# EAGLE library part HEAEDER_2X4 (library logic-supply)
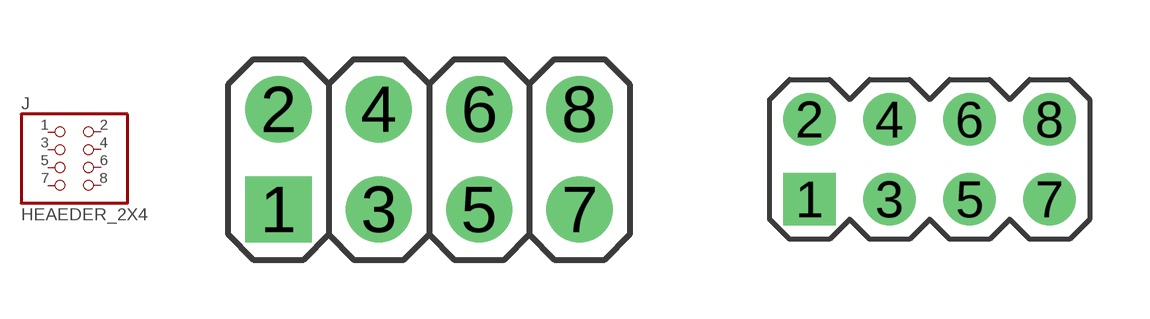
[diagram p37: symbol with the pads of HEADER_2X4; footprints HEADER_2X4, HEADER_2X4_2MM]

Designator prefix J

## HEAEDER_2X4  [HEADER_2X4]
1  1  pas
2  2  pas
3  3  pas
4  4  pas
5  5  pas
6  6  pas
7  7  pas
8  8  pas

## HEAEDER_2X4-2MM  [HEADER_2X4_2MM]
Pads as for HEADER_2X4

## Footprint HEADER_2X4 (pad centres in mm)
PIN HEADER
drill 1.016 pad 1.676 square: 1 0,0
drill 1.016 pad 1.676: 2 0,2.54; 3 2.54,0; 4 2.54,2.54; 5 5.08,0; 6 5.08,2.54; 7 7.62,0; 8 7.62,2.54

## Footprint HEADER_2X4_2MM (pad centres in mm)
drill 0.8 square: 1 0,0
drill 0.8: 2 0,2; 3 2,0; 4 2,2; 5 4,0; 6 4,2; 7 6,0; 8 6,2